# Altium footprint library capacitors.PcbLib: 12 footprints
Each footprint in its own frame and in the unit in brackets; x right, y up, seen from the top. Pads: shape width x height; smd on the part's side, far side on the other; paste and mask are expansions set on the pad; w line width, h text height; cw(c..) or ccw(c..) is an arc to the next point about the centre after c.
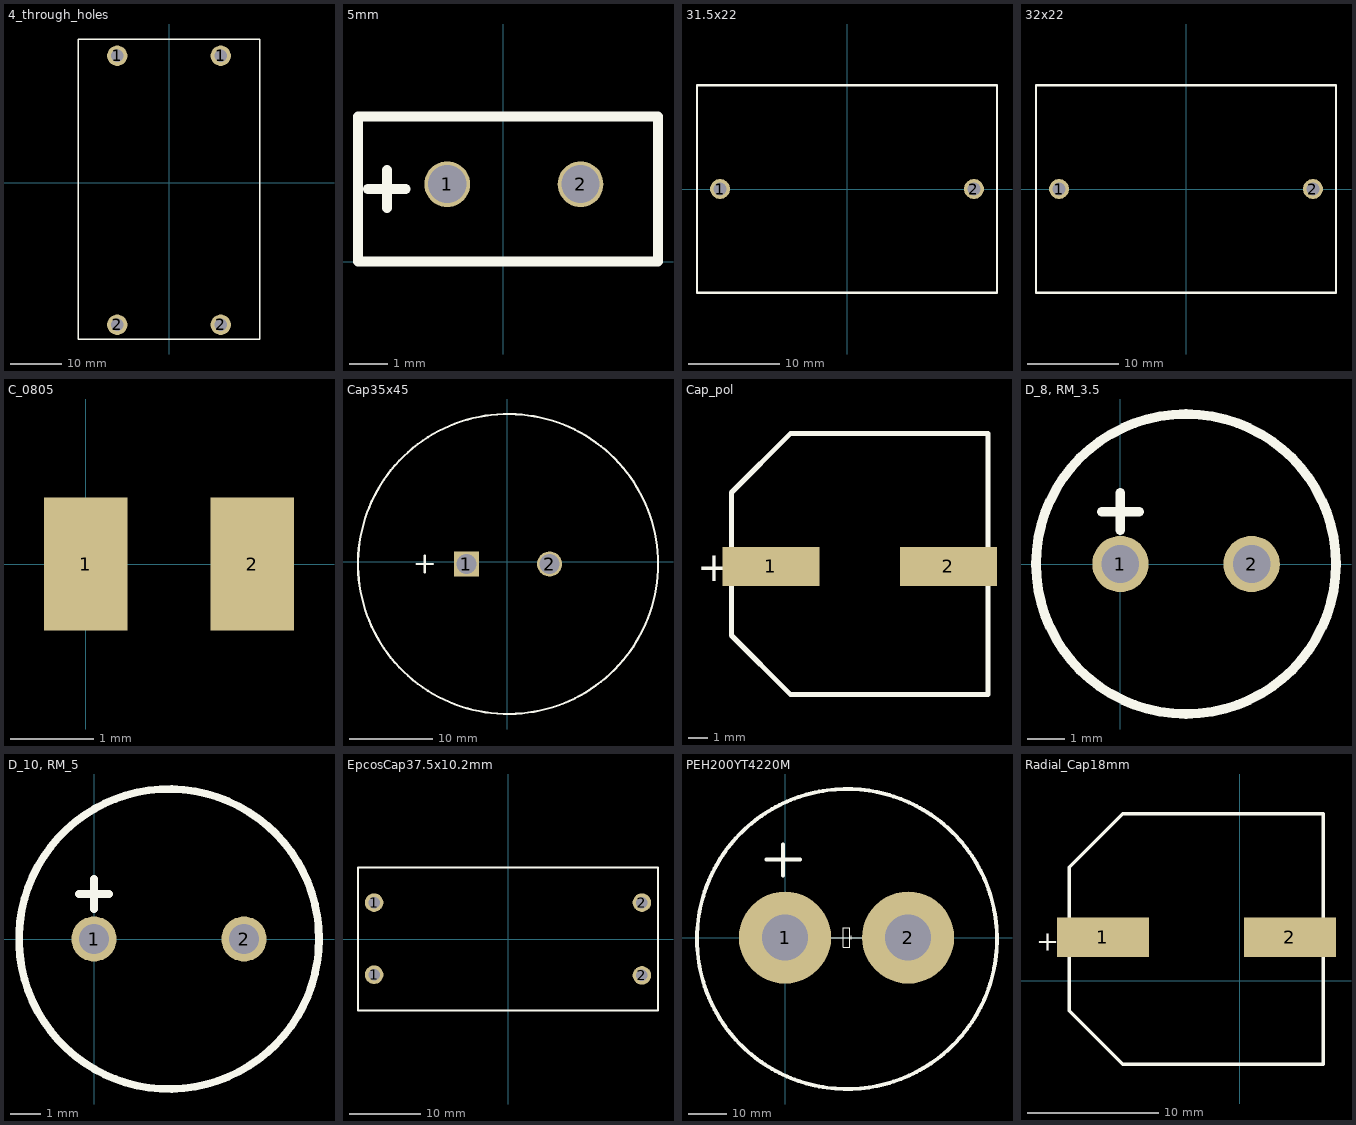
[diagram p0: the footprints below, top view; thin cyan lines are the x and y axes]

## 4_through_holes [mm]
pads (4):
  round 4 hole 2.4 unplated: 1(-10.16,24.892) 1(10.16,24.892) 2(-10.16,-27.94) 2(10.16,-27.94)
Top Overlay:
  lines w0.254: -17.78,-30.734 -17.78,28.194 17.78,28.194 17.78,-30.734 -17.78,-30.734

## 5mm [mm]
pads (2):
  round 1.2 hole 1: 1(-1.468,2.032) 2(2.032,2.032)
Top Overlay:
  lines w0.254: -3.556,1.905 -2.556,1.905 ; -3.048,1.405 -3.048,2.405 ; -3.81,0 4.064,0 4.064,3.81 -3.81,3.81 -3.81,0

## 31.5x22 [mm]
height 36
pads (2):
  round 2.2 hole 1.4: 1(-13.97,0) 2(13.97,0)
Top Overlay:
  lines w0.254: -16.51,-11.43 -16.51,11.43 16.51,11.43 16.51,-11.43 -16.51,-11.43

## 32x22 [mm]
height 13
pads (2):
  round 2.2 hole 1.4: 1(-13.97,0) 2(13.97,0)
Top Overlay:
  lines w0.254: -16.51,-11.43 16.51,-11.43 16.51,11.43 -16.51,11.43 -16.51,-11.43

## C_0805 [mm]
pads (2):
  rect 1x1.6 smd: 1(0,0) 2(2,0)
3D body "SW3dPS-0805 SMD Capacitor.STEP": height 0.78, standoff 0, extent 0.016,-0.625 2.016,0.625

## Cap35x45 [mm]
pads (2):
  rect 3x3 hole 2.4: 1(-4.9,-0.3)
  round 3 hole 2.4: 2(5.1,-0.3)
Top Overlay:
  circle w0.254: c0.1,-0.3 r18.028
  lines w0.254: -10.9,-0.3 -8.9,-0.3 ; -9.9,-1.3 -9.9,0.7

## Cap_pol [mm]
pads (2):
  rect 5x2 smd mask+0.102: 1(30.734,-28.956)
  rect 5x2 smd: 2(39.878,-28.956)
Top Overlay:
  lines w0.254: 28.702,-32.512 28.702,-25.146 31.75,-22.098 41.91,-22.098 41.91,-35.56 31.75,-35.56 28.702,-32.512
  text "+" at 26.924,-29.718 h1.52

## D_8, RM_3.5 [mm]
pads (2):
  round 1.5 hole 1: 1(0,0) 2(3.5,0)
Top Overlay:
  circle w0.254: c1.75,0 r4
  lines w0.254: -0.5,1.397 0.5,1.397 ; 0,0.897 0,1.897
3D body "C_8_.STEP": height 12.5, standoff -3, extent -2.25,-4 5.75,4

## D_10, RM_5 [mm]
pads (2):
  round 1.5 hole 1: 1(0,0) 2(5,0)
Top Overlay:
  circle w0.254: c2.5,0 r5
  lines w0.254: -0.5,1.5 0.5,1.5 ; 0,1 0,2
3D body "C_10.STEP": height 13.5, standoff -3, extent -2.5,-5 7.5,5

## EpcosCap37.5x10.2mm [mm]
pads (4):
  round 2.6 hole 1.6: 1(-18.75,-5) 1(-18.75,5.1) 2(18.75,-5.1) 2(18.75,5.1)
Top Overlay:
  lines w0.254: -21,-10 21,-10 21,10 -21,10 -21,-10

## PEH200YT4220M [mm]
height 22
pads (2):
  round 24 hole 12: 1(0,0) 2(32,0)
Top Overlay:
  circle w1: c16.118,-0.381 r39
  lines w0.2: 8,0 16.825,0 ; 16.762,0 17.778,0 ; 17.27,-0.508 17.27,0.508 ; 24,0 15.175,0 ; 15.175,0 15.175,2.5 16.825,2.5 16.825,-2.5 15.175,-2.5 15.175,0
  lines w1: -4.826,20.32 3.937,20.32 ; -0.508,16.129 -0.508,24.257

## Radial_Cap18mm [mm]
height 21
pads (2):
  rect 7x3 smd mask+0.102: 1(-10.414,3.302)
  rect 7x3 smd: 2(3.81,3.302)
Top Overlay:
  lines w0.254: -12.954,-2.286 -12.954,8.636 -8.89,12.7 6.35,12.7 6.35,-6.35 -8.89,-6.35 -12.954,-2.286
  text "+" at -15.494,2.286 h1.52